# Altium integrated library 0805_Resister.IntLib: 1 symbol
Pins are listed as number, name and electrical type; pins without a type are passive.

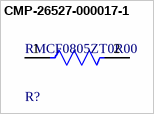
[diagram p0: symbol CMP-26527-000017-1]

## CMP-26527-000017-1
designator R?, comment RMCF0805ZT0R00
RES 0 OHM JUMPER 1/8W 0805; Power Rating: 125mW; Resistance: 0mR; Depth: 1.25mm; Length: 2mm; Military Standard: Not; Width: 0.049inch; Case Code (Imperial): 0805; Number of Terminations: 2; Mount: Surface Mount; Contact Plating: Tin; Height: 0.026inch; Case/Package: 0805; Min Operating Temperature: -55°C; Composition: Thick Film; Max Operating Temperature: 155°C; Packaging: Tape and Reel; Features: Automotive AEC-Q200; Max Power Dissipation: 125mW; Radiation Hardening: No; Lead Free: Lead Free; Case Code (Metric): 2012
footprint FP-RMCF0805-IPC_B
footprint FP-RMCF0805-IPC_C
footprint FP-RMCF0805-IPC_A
footprint FP-RMCF0805-MFG
pins: 1, 2